# Altium footprint library MyLib.PCBLIB: 64 footprints (part 4 of 4)
Each footprint in its own frame and in the unit in brackets; x right, y up, seen from the top. Pads: shape width x height; smd on the part's side, far side on the other; paste and mask are expansions set on the pad; w line width, h text height; cw(c..) or ccw(c..) is an arc to the next point about the centre after c.
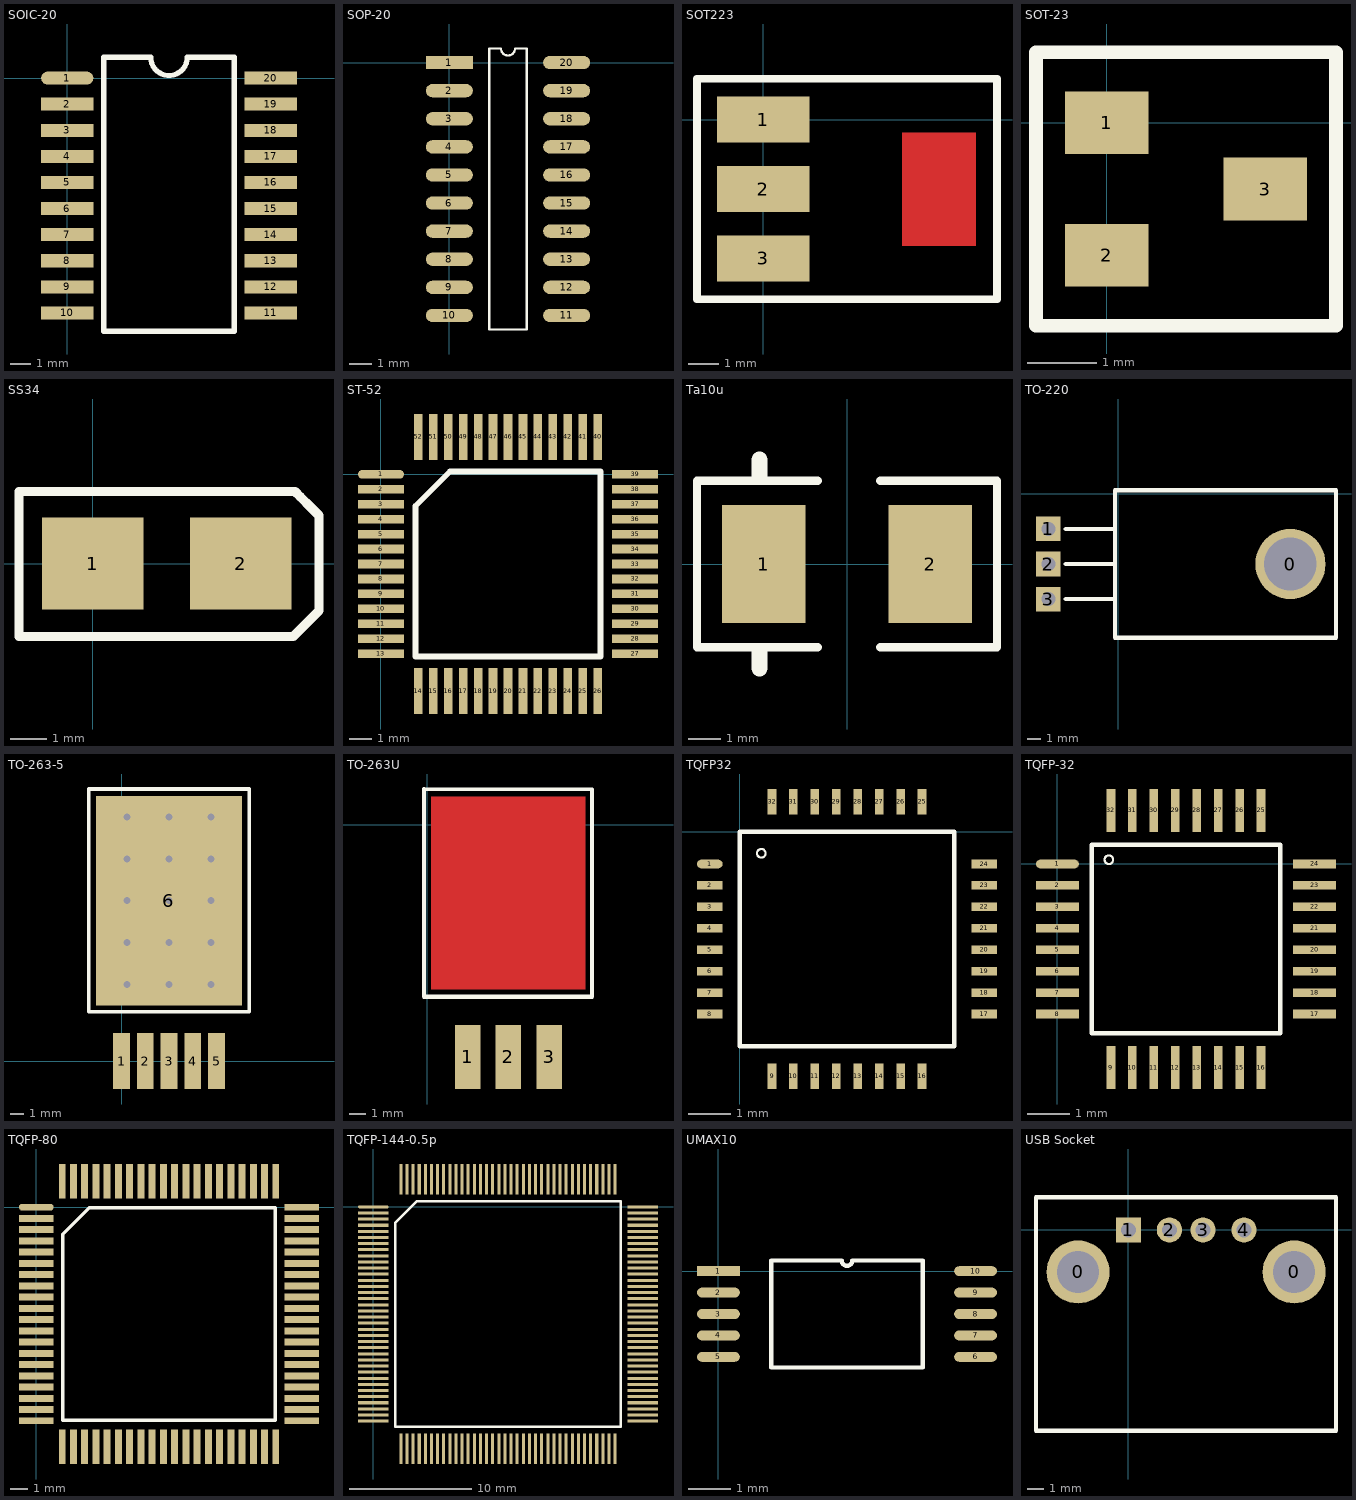
[diagram p3: the footprints below, top view; thin cyan lines are the x and y axes]

## SOIC-20 [mil]
pads (20):
  oval 100x25 smd: 1(0,0)
  rect 100x25 smd: 2(0,-50) 3(0,-100) 4(0,-150) 5(0,-200) 6(0,-250) 7(0,-300) 8(0,-350) 9(0,-400) 10(0,-450) 11(390,-450) 12(390,-400) 13(390,-350) 14(390,-300) 15(390,-250) 16(390,-200) 17(390,-150) 18(390,-100) 19(390,-50) 20(390,0)
Top Overlay:
  lines w10: 70,-485 70,40 160,40 ccw(c195,40) 230,40 320,40 320,-485 70,-485

## SOP-20 [mm]
pads (20):
  rect 2.13x0.6 smd: 1(0,0)
  oval 2.13x0.6 smd: 2(0,-1.27) 3(0,-2.54) 4(0,-3.81) 5(0,-5.08) 6(0,-6.35) 7(0,-7.62) 8(0,-8.89) 9(0,-10.16) 10(0,-11.43) 11(5.3,-11.43) 12(5.3,-10.16) 13(5.3,-8.89) 14(5.3,-7.62) 15(5.3,-6.35) 16(5.3,-5.08) 17(5.3,-3.81) 18(5.3,-2.54) 19(5.3,-1.27) 20(5.3,0)
Top Overlay:
  lines w0.1: 1.8,-12.065 3.5,-12.065 3.5,0.635 2.967,0.635 cw(c2.65,0.635) 2.332,0.635 1.8,0.635 1.8,-12.065

## SOT223 [mil]
pads (3):
  rect 120x60 smd: 1(0,0) 2(0,-90) 3(0,-180)
Top Layer:
  rectangle: 180,-164 276,-17
Top Overlay:
  lines w10: -86,-233 -86,53 303,53 303,-233 -86,-233

## SOT-23 [mm]
pads (3):
  rect 1.2x0.9 smd: 1(0,0) 2(0,-1.905) 3(2.286,-0.953)
Top Overlay:
  lines w0.2: -1.016,-2.921 3.302,-2.921 3.302,1.016 -1.016,1.016 -1.016,-2.921

## SS34 [mil]
pads (2):
  rect 110x100 smd: 1(0,0) 2(160,0)
Top Overlay:
  lines w10: -80,-79 -80,0 -80,78 118,78 219,78 224.75,72.25 236.25,60.75 245,52 245,-51 217,-79 119,-79 -80,-79

## ST-52 [mil]
pads (52):
  oval 80x15 smd: 1(0,0)
  rect 80x15 smd: 2(0,-26) 3(0,-52) 4(0,-78) 5(0,-104) 6(0,-130) 7(0,-156) 8(0,-182) 9(0,-208) 10(0,-234) 11(0,-260) 12(0,-286) 13(0,-312) 27(442,-312) 28(442,-286) 29(442,-260) 30(442,-234) 31(442,-208) 32(442,-182) 33(442,-156) 34(442,-130) 35(442,-104) 36(442,-78) 37(442,-52) 38(442,-26) 39(442,0)
  rect 15x80 smd: 14(65,-377) 15(91,-377) 16(117,-377) 17(143,-377) 18(169,-377) 19(195,-377) 20(221,-377) 21(247,-377) 22(273,-377) 23(299,-377) 24(325,-377) 25(351,-377) 26(377,-377) 40(377,65) 41(351,65) 42(325,65) 43(299,65) 44(273,65) 45(247,65) 46(221,65) 47(195,65) 48(169,65) 49(143,65) 50(117,65) 51(91,65) 52(65,65)
Top Overlay:
  lines w10: 60,-317 60,-55 120,5 382,5 382,-317 60,-317

## Ta10u [mm]
pads (2):
  rect 2.54x3.6 smd: 1(-2.54,0) 2(2.54,0)
Top Overlay:
  lines w0.254: -0.889,-2.54 -4.572,-2.54 -4.572,0 -4.572,2.54 -0.889,2.54 ; 1.016,-2.54 4.572,-2.54 4.572,2.54 1.016,2.54
  lines w0.5: -2.667,-3.175 -2.667,-2.667 ; -2.667,2.667 -2.667,3.175

## TO-220 [mil]
pads (4):
  round 200 hole 150: 0(490,-200)
  rect 70x70 hole 40: 1(-200,-100) 2(-200,-200) 3(-200,-300)
Top Overlay:
  lines w12: -150,-300 -10,-300 ; -150,-200 -10,-200 ; -150,-100 -10,-100 ; -10,-410 440,-410 540,-410 620,-410 620,10 540,10 440,10 -10,10 -10,-410

## TO-263-5 [mm]
pads (6):
  rect 1.2x4 smd: 1(0,0) 2(1.702,0) 3(3.404,0) 4(5.105,0) 5(6.807,0)
  rect 10.5x15 hole 0.508: 6(3.4,11.5)
via 0.4,17.5 diameter 0.889 hole 0.508
via 3.4,17.5 diameter 0.889 hole 0.508
via 6.4,17.5 diameter 0.889 hole 0.508
via 0.4,5.5 diameter 0.889 hole 0.508
via 3.4,5.5 diameter 0.889 hole 0.508
via 6.4,5.5 diameter 0.889 hole 0.508
via 6.4,14.5 diameter 0.889 hole 0.508
via 3.4,14.5 diameter 0.889 hole 0.508
via 0.4,14.5 diameter 0.889 hole 0.508
via 6.4,8.5 diameter 0.889 hole 0.508
via 3.4,8.5 diameter 0.889 hole 0.508
via 0.4,8.5 diameter 0.889 hole 0.508
via 6.4,11.5 diameter 0.889 hole 0.508
via 0.4,11.5 diameter 0.889 hole 0.508
Top Overlay:
  lines w0.254: -2.362,3.531 -2.362,19.507 9.169,19.507 9.169,3.531 -2.362,3.531

## TO-263U [mm]
pads (3):
  rect 1.6x4 smd: 1(2.54,-14.51) 2(5.08,-14.51) 3(7.62,-14.51)
Top Layer:
  rectangle: 0.254,-10.287 9.906,1.778
Top Overlay:
  lines w0.254: -0.203,2.21 -0.203,-10.744 10.312,-10.744 10.312,2.214 -0.203,2.235

## TQFP32 [mm]
pads (32):
  oval 0.6x0.2 smd: 1(-0.7,-0.75)
  rect 0.6x0.2 smd: 2(-0.7,-1.25) 3(-0.7,-1.75) 4(-0.7,-2.25) 5(-0.7,-2.75) 6(-0.7,-3.25) 7(-0.7,-3.75) 8(-0.7,-4.25) 17(5.7,-4.25) 18(5.7,-3.75) 19(5.7,-3.25) 20(5.7,-2.75) 21(5.7,-2.25) 22(5.7,-1.75) 23(5.7,-1.25) 24(5.7,-0.75)
  rect 0.2x0.6 smd: 9(0.75,-5.7) 10(1.25,-5.7) 11(1.75,-5.7) 12(2.25,-5.7) 13(2.75,-5.7) 14(3.25,-5.7) 15(3.75,-5.7) 16(4.25,-5.7) 25(4.25,0.7) 26(3.75,0.7) 27(3.25,0.7) 28(2.75,0.7) 29(2.25,0.7) 30(1.75,0.7) 31(1.25,0.7) 32(0.75,0.7)
Top Overlay:
  circle w0.05: c0.5,-0.5 r0.1
  lines w0.1: 0,-5 5,-5 5,0 0,0 0,-5

## TQFP-32 [mm]
pads (32):
  oval 1x0.2 smd: 1(0,0)
  rect 1x0.2 smd: 2(0,-0.5) 3(0,-1) 4(0,-1.5) 5(0,-2) 6(0,-2.5) 7(0,-3) 8(0,-3.5) 17(6,-3.5) 18(6,-3) 19(6,-2.5) 20(6,-2) 21(6,-1.5) 22(6,-1) 23(6,-0.5) 24(6,0)
  rect 0.2x1 smd: 9(1.25,-4.75) 10(1.75,-4.75) 11(2.25,-4.75) 12(2.75,-4.75) 13(3.25,-4.75) 14(3.75,-4.75) 15(4.25,-4.75) 16(4.75,-4.75) 25(4.75,1.25) 26(4.25,1.25) 27(3.75,1.25) 28(3.25,1.25) 29(2.75,1.25) 30(2.25,1.25) 31(1.75,1.25) 32(1.25,1.25)
Top Overlay:
  circle w0.05: c1.2,0.1 r0.1
  lines w0.1: 0.8,-3.95 5.2,-3.95 5.2,0.45 0.8,0.45 0.8,-3.95

## TQFP-80 [mm]
pads (80):
  oval 2x0.4 smd: 1(0,0)
  rect 2x0.4 smd: 2(0,-0.65) 3(0,-1.3) 4(0,-1.95) 5(0,-2.6) 6(0,-3.25) 7(0,-3.9) 8(0,-4.55) 9(0,-5.2) 10(0,-5.85) 11(0,-6.5) 12(0,-7.15) 13(0,-7.8) 14(0,-8.45) 15(0,-9.1) 16(0,-9.75) 17(0,-10.4) 18(0,-11.05) 19(0,-11.7) 20(0,-12.35) 41(15.35,-12.35) 42(15.35,-11.7) 43(15.35,-11.05) 44(15.35,-10.4) 45(15.35,-9.75) 46(15.35,-9.1) 47(15.35,-8.45) 48(15.35,-7.8) 49(15.35,-7.15) 50(15.35,-6.5) 51(15.35,-5.85) 52(15.35,-5.2) 53(15.35,-4.55) 54(15.35,-3.9) 55(15.35,-3.25) 56(15.35,-2.6) 57(15.35,-1.95) 58(15.35,-1.3) 59(15.35,-0.65) 60(15.35,0)
  rect 0.4x2 smd: 21(1.5,-13.85) 22(2.15,-13.85) 23(2.8,-13.85) 24(3.45,-13.85) 25(4.1,-13.85) 26(4.75,-13.85) 27(5.4,-13.85) 28(6.05,-13.85) 29(6.7,-13.85) 30(7.35,-13.85) 31(8,-13.85) 32(8.65,-13.85) 33(9.3,-13.85) 34(9.95,-13.85) 35(10.6,-13.85) 36(11.25,-13.85) 37(11.9,-13.85) 38(12.55,-13.85) 39(13.2,-13.85) 40(13.85,-13.85) 61(13.85,1.5) 62(13.2,1.5) 63(12.55,1.5) 64(11.9,1.5) 65(11.25,1.5) 66(10.6,1.5) 67(9.95,1.5) 68(9.3,1.5) 69(8.65,1.5) 70(8,1.5) 71(7.35,1.5) 72(6.7,1.5) 73(6.05,1.5) 74(5.4,1.5) 75(4.75,1.5) 76(4.1,1.5) 77(3.45,1.5) 78(2.8,1.5) 79(2.15,1.5) 80(1.5,1.5)
Top Overlay:
  lines w0.2: 1.535,-12.315 13.815,-12.315 13.815,-0.035 3.07,-0.035 1.535,-1.57 1.535,-12.315

## TQFP-144-0.5p [mm]
pads (144):
  oval 2.5x0.25 smd: 1(0,0)
  rect 2.5x0.25 smd: 2(0,-0.5) 3(0,-1) 4(0,-1.5) 5(0,-2) 6(0,-2.5) 7(0,-3) 8(0,-3.5) 9(0,-4) 10(0,-4.5) 11(0,-5) 12(0,-5.5) 13(0,-6) 14(0,-6.5) 15(0,-7) 16(0,-7.5) 17(0,-8) 18(0,-8.5) 19(0,-9) 20(0,-9.5) 21(0,-10) 22(0,-10.5) 23(0,-11) 24(0,-11.5) 25(0,-12) 26(0,-12.5) 27(0,-13) 28(0,-13.5) 29(0,-14) 30(0,-14.5) 31(0,-15) 32(0,-15.5) 33(0,-16) 34(0,-16.5) 35(0,-17) 36(0,-17.5) 73(22,-17.5) 74(22,-17) 75(22,-16.5) 76(22,-16) 77(22,-15.5) 78(22,-15) 79(22,-14.5) 80(22,-14) 81(22,-13.5) 82(22,-13) 83(22,-12.5) 84(22,-12) 85(22,-11.5) 86(22,-11) 87(22,-10.5) 88(22,-10) 89(22,-9.5) 90(22,-9) 91(22,-8.5) 92(22,-8) 93(22,-7.5) 94(22,-7) 95(22,-6.5) 96(22,-6) 97(22,-5.5) 98(22,-5) 99(22,-4.5) 100(22,-4) 101(22,-3.5) 102(22,-3) 103(22,-2.5) 104(22,-2) 105(22,-1.5) 106(22,-1) 107(22,-0.5) 108(22,0)
  rect 0.25x2.5 smd: 37(2.25,-19.75) 38(2.75,-19.75) 39(3.25,-19.75) 40(3.75,-19.75) 41(4.25,-19.75) 42(4.75,-19.75) 43(5.25,-19.75) 44(5.75,-19.75) 45(6.25,-19.75) 46(6.75,-19.75) 47(7.25,-19.75) 48(7.75,-19.75) 49(8.25,-19.75) 50(8.75,-19.75) 51(9.25,-19.75) 52(9.75,-19.75) 53(10.25,-19.75) 54(10.75,-19.75) 55(11.25,-19.75) 56(11.75,-19.75) 57(12.25,-19.75) 58(12.75,-19.75) 59(13.25,-19.75) 60(13.75,-19.75) 61(14.25,-19.75) 62(14.75,-19.75) 63(15.25,-19.75) 64(15.75,-19.75) 65(16.25,-19.75) 66(16.75,-19.75) 67(17.25,-19.75) 68(17.75,-19.75) 69(18.25,-19.75) 70(18.75,-19.75) 71(19.25,-19.75) 72(19.75,-19.75) 109(19.75,2.25) 110(19.25,2.25) 111(18.75,2.25) 112(18.25,2.25) 113(17.75,2.25) 114(17.25,2.25) 115(16.75,2.25) 116(16.25,2.25) 117(15.75,2.25) 118(15.25,2.25) 119(14.75,2.25) 120(14.25,2.25) 121(13.75,2.25) 122(13.25,2.25) 123(12.75,2.25) 124(12.25,2.25) 125(11.75,2.25) 126(11.25,2.25) 127(10.75,2.25) 128(10.25,2.25) 129(9.75,2.25) 130(9.25,2.25) 131(8.75,2.25) 132(8.25,2.25) 133(7.75,2.25) 134(7.25,2.25) 135(6.75,2.25) 136(6.25,2.25) 137(5.75,2.25) 138(5.25,2.25) 139(4.75,2.25) 140(4.25,2.25) 141(3.75,2.25) 142(3.25,2.25) 143(2.75,2.25) 144(2.25,2.25)
Top Overlay:
  lines w0.2: 1.785,-17.965 20.215,-17.965 20.215,0.465 3.57,0.465 1.785,-1.32 1.785,-17.965

## UMAX10 [mm]
pads (10):
  rect 1x0.23 smd: 1(0,0)
  oval 1x0.23 smd: 2(0,-0.5) 3(0,-1) 4(0,-1.5) 5(0,-2) 6(6,-2) 7(6,-1.5) 8(6,-1) 9(6,-0.5) 10(6,0)
Top Overlay:
  lines w0.1: 1.235,-2.25 4.765,-2.25 4.765,0.25 3.125,0.25 cw(c3,0.25) 2.875,0.25 1.235,0.25 1.235,-2.25

## USB Socket [mil]
pads (6):
  round 150 hole 100: 0(-120,-100) 0(394.5,-100)
  rect 60x60 hole 35: 1(0,0)
  round 60 hole 35: 2(97.5,0) 3(177.5,0) 4(275,0)
Top Overlay:
  lines w10: -220,-478 494,-478 494,78 -220,78 -220,-478